# EAGLE library part SN74ALVC164245 (library alvie)
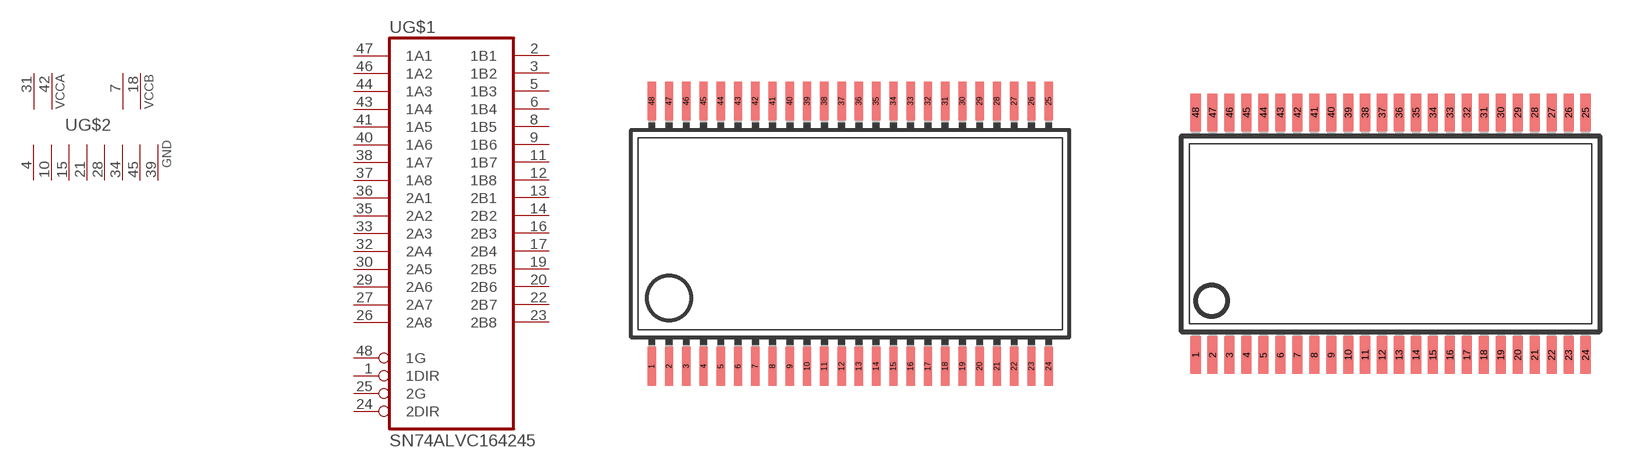
[diagram p17: symbol with the pads of SSOP48DL; footprints SSOP48DL, TSSOP48]

Designator prefix -; gates G$1=7416245 G$2=2PWRA2PWRB8GND

## SN74ALVC164245DL  [SSOP48DL]
1  G$1:1DIR  in
2  G$1:1B1
3  G$1:1B2
4  G$2:GND  pwr
5  G$1:1B3
6  G$1:1B4
7  G$2:VCCB  pwr
8  G$1:1B5
9  G$1:1B6
10  G$2:GND  pwr
11  G$1:1B7
12  G$1:1B8
13  G$1:2B1
14  G$1:2B2
15  G$2:GND  pwr
16  G$1:2B3
17  G$1:2B4
18  G$2:VCCB  pwr
19  G$1:2B5
20  G$1:2B6
21  G$2:GND  pwr
22  G$1:2B7
23  G$1:2B8
24  G$1:2DIR  in
25  G$1:2G  in
26  G$1:2A8
27  G$1:2A7
28  G$2:GND  pwr
29  G$1:2A6
30  G$1:2A5
31  G$2:VCCA  pwr
32  G$1:2A4
33  G$1:2A3
34  G$2:GND  pwr
35  G$1:2A2
36  G$1:2A1
37  G$1:1A8
38  G$1:1A7
39  G$2:GND  pwr
40  G$1:1A6
41  G$1:1A5
42  G$2:VCCA  pwr
43  G$1:1A4
44  G$1:1A3
45  G$2:GND  pwr
46  G$1:1A2
47  G$1:1A1
48  G$1:1G  in

## SN74ALVC164245DGG  [TSSOP48]
1  G$1:1DIR  in
2  G$1:1B1
3  G$1:1B2
4  G$2:GND  pwr
5  G$1:1B3
6  G$1:1B4
7  G$2:VCCB  pwr
8  G$1:1B5
9  G$1:1B6
10  G$2:GND  pwr
11  G$1:1B7
12  G$1:1B8
13  G$1:2B1
14  G$1:2B2
15  G$2:GND  pwr
16  G$1:2B3
17  G$1:2B4
18  G$2:VCCB  pwr
19  G$1:2B5
20  G$1:2B6
21  G$2:GND  pwr
22  G$1:2B7
23  G$1:2B8
24  G$1:2DIR  in
25  G$1:2G  in
26  G$1:2A8
27  G$1:2A7
28  G$2:GND  pwr
29  G$1:2A6
30  G$1:2A5
31  G$2:VCCA  pwr
32  G$1:2A4
33  G$1:2A3
34  G$2:GND  pwr
35  G$1:2A2
36  G$1:2A1
37  G$1:1A8
38  G$1:1A7
39  G$2:GND  pwr
40  G$1:1A6
41  G$1:1A5
42  G$2:VCCA  pwr
43  G$1:1A4
44  G$1:1A3
45  G$2:GND  pwr
46  G$1:1A2
47  G$1:1A1
48  G$1:1G  in

## Footprint SSOP48DL (pad centres in mm)
smd 0.305 x 1.422: 1 -6.985,-4.877; 2 -6.35,-4.877; 3 -5.715,-4.877; 4 -5.08,-4.877; 5 -4.445,-4.877; 6 -3.81,-4.877; 7 -3.175,-4.877; 8 -2.54,-4.877; 9 -1.905,-4.877; 10 -1.27,-4.877; 11 -0.635,-4.877; 12 0,-4.877; 13 0.635,-4.877; 14 1.27,-4.877; 15 1.905,-4.877; 16 2.54,-4.877; 17 3.175,-4.877; 18 3.81,-4.877; 19 4.445,-4.877; 20 5.08,-4.877; 21 5.715,-4.877; 22 6.35,-4.877; 23 6.985,-4.877; 24 7.62,-4.877; 25 7.62,4.877; 26 6.985,4.877; 27 6.35,4.877; 28 5.715,4.877; 29 5.08,4.877; 30 4.445,4.877; 31 3.81,4.877; 32 3.175,4.877; 33 2.54,4.877; 34 1.905,4.877; 35 1.27,4.877; 36 0.635,4.877; 37 0,4.877; 38 -0.635,4.877; 39 -1.27,4.877; 40 -1.905,4.877; 41 -2.54,4.877; 42 -3.175,4.877; 43 -3.81,4.877; 44 -4.445,4.877; 45 -5.08,4.877; 46 -5.715,4.877; 47 -6.35,4.877; 48 -6.985,4.877

## Footprint TSSOP48 (pad centres in mm)
smd 0.3 x 1.1: 1 -5.75,-3.575; 2 -5.25,-3.575; 3 -4.75,-3.575; 4 -4.25,-3.575; 5 -3.75,-3.575; 6 -3.25,-3.575; 7 -2.75,-3.575; 8 -2.25,-3.575; 9 -1.75,-3.575; 10 -1.25,-3.575; 11 -0.75,-3.575; 12 -0.25,-3.575; 13 0.25,-3.575; 14 0.75,-3.575; 15 1.25,-3.575; 16 1.75,-3.575; 17 2.25,-3.575; 18 2.75,-3.575; 19 3.25,-3.575; 20 3.75,-3.575; 21 4.25,-3.575; 22 4.75,-3.575; 23 5.25,-3.575; 24 5.75,-3.575; 25 5.75,3.575; 26 5.25,3.575; 27 4.75,3.575; 28 4.25,3.575; 29 3.75,3.575; 30 3.25,3.575; 31 2.75,3.575; 32 2.25,3.575; 33 1.75,3.575; 34 1.25,3.575; 35 0.75,3.575; 36 0.25,3.575; 37 -0.25,3.575; 38 -0.75,3.575; 39 -1.25,3.575; 40 -1.75,3.575; 41 -2.25,3.575; 42 -2.75,3.575; 43 -3.25,3.575; 44 -3.75,3.575; 45 -4.25,3.575; 46 -4.75,3.575; 47 -5.25,3.575; 48 -5.75,3.575